# Altium footprint library acopians-monitoring-hw-library-pcb.PcbLib: 20 footprints (part 1 of 2)
Each footprint in its own frame and in the unit in brackets; x right, y up, seen from the top. Pads: shape width x height; smd on the part's side, far side on the other; paste and mask are expansions set on the pad; w line width, h text height; cw(c..) or ccw(c..) is an arc to the next point about the centre after c.
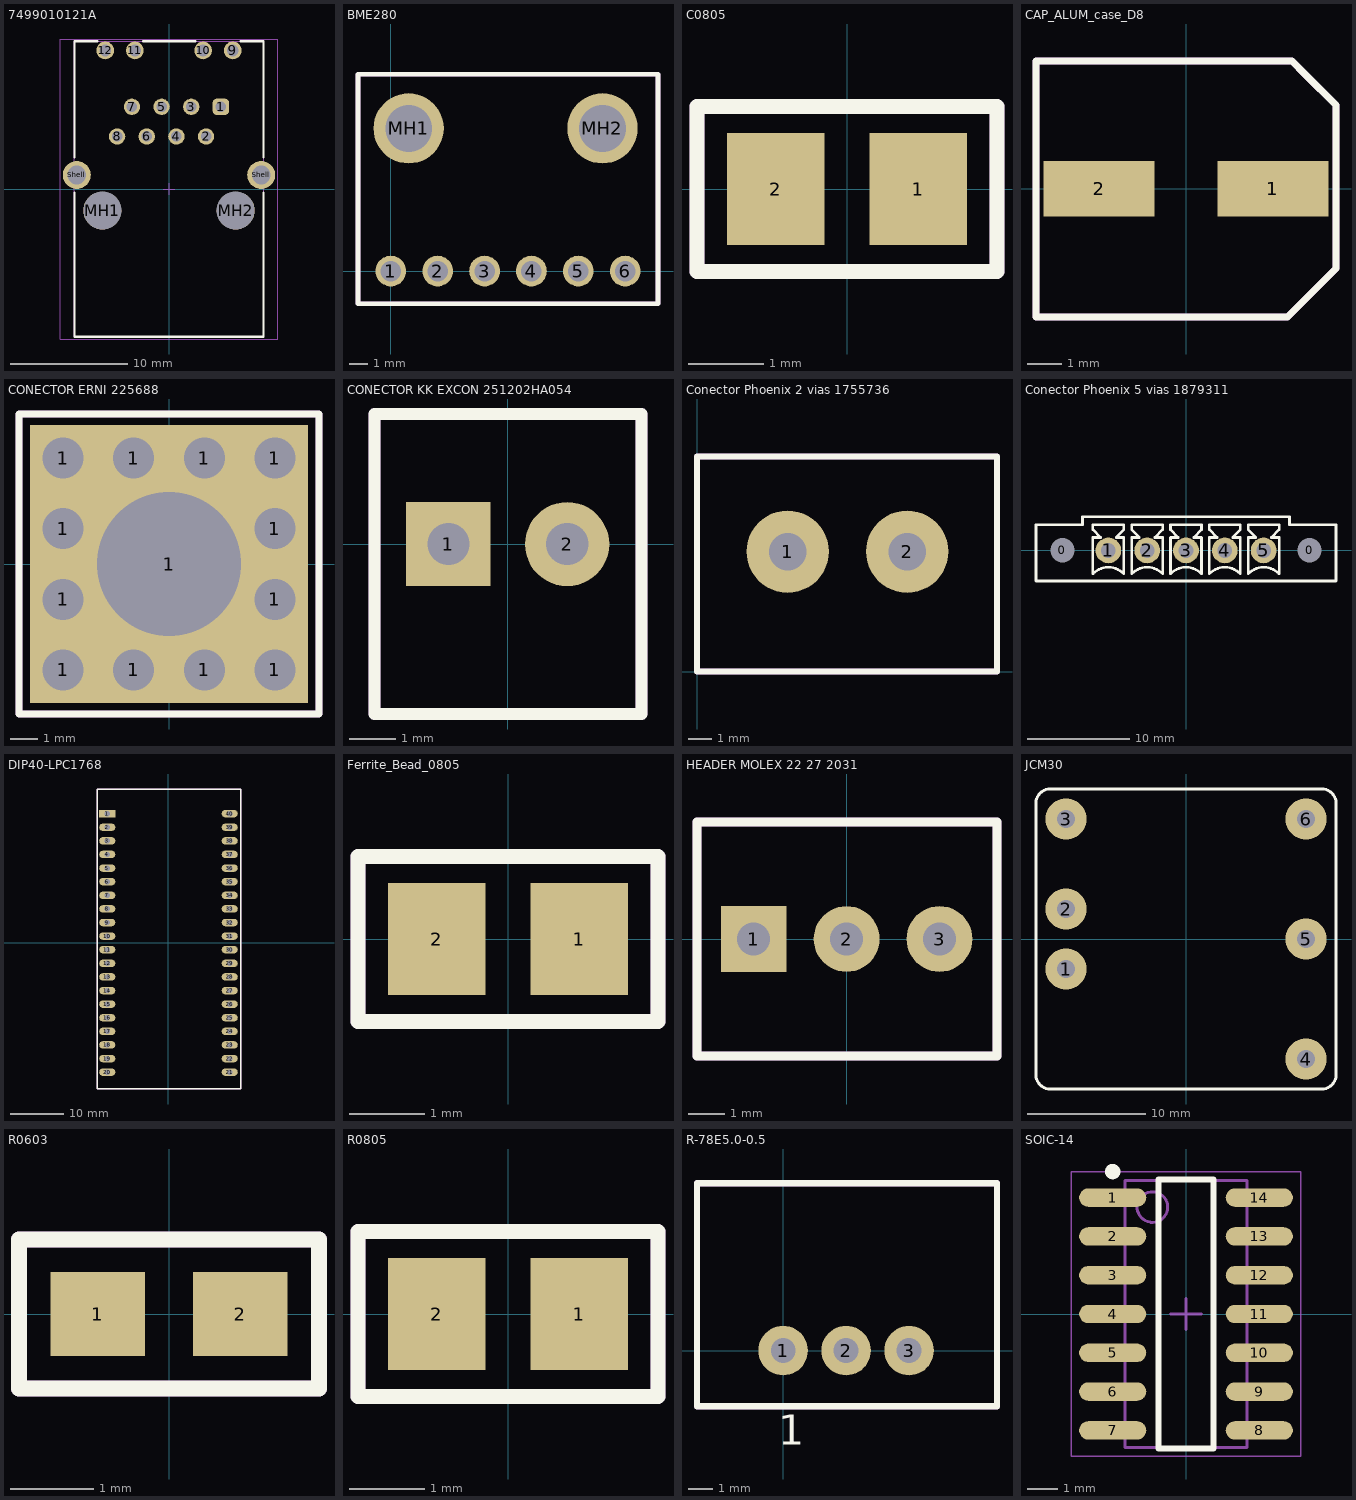
[diagram p0: the footprints below, top view; thin cyan lines are the x and y axes]

## 7499010121A [mm]
height 13.5
pads (16):
  rrect50% 1.4x1.4 hole 0.9: 1(4.445,7.04)
  round 1.4 hole 0.9: 2(3.175,4.5) 3(1.905,7.04) 4(0.635,4.5) 5(-0.635,7.04) 6(-1.905,4.5) 7(-3.175,7.04) 8(-4.445,4.5)
  round 1.52 hole 1.02: 9(5.465,11.87) 10(2.925,11.87) 11(-2.925,11.87) 12(-5.465,11.87)
  round 3.25 hole 3.25 unplated: MH1(-5.715,-1.85) MH2(5.715,-1.85)
  round 2.4 hole 1.6: Shell(-7.9,1.2) Shell(7.9,1.2)
Top Overlay:
  lines w0.2: -8.1,-0.3 -8.1,-12.65 8.1,-12.65 8.1,-0.3 ; -8.1,2.7 -8.1,12.65 -6.15,12.65 ; -2.2,12.65 2.24,12.65 ; 6.15,12.65 8.1,12.65 8.1,2.7
Top Courtyard:
  lines w0.05: -9.3,-12.85 -9.3,12.85 9.3,12.85 9.3,-12.85 -9.3,-12.85
Top Component Outline:
  lines w0.1: -8.1,-12.65 8.1,-12.65 8.1,12.65 -8.1,12.65 -8.1,-12.65
Mechanical 13:
  text ".Designator" at -7.546,-6.138 h1.52
Top Component Center:
  lines w0.05: -0.5,0 0.5,0 ; 0,-0.5 0,0.5
3D body "7499010121A.stp": height 13.61, standoff -3.79, extent -8.2,-12.65 8.2,12.65

## BME280 [mm]
pads (8):
  round 1.665 hole 1.11: 1(0,0) 2(2.54,0) 3(5.08,0) 4(7.62,0) 5(10.16,0) 6(12.7,0)
  round 3.81 hole 2.54: MH1(0.97,7.73) MH2(11.47,7.73)
Top Overlay:
  lines w0.254: -1.778,-1.778 -1.778,10.668 14.478,10.668 14.478,-1.778 -1.778,-1.778
Mechanical 13:
  text ".Designator" at -1.296,3.272 h1.52
Mechanical 29:
  lines w0.254: -1.778,-1.778 14.478,-1.778 14.478,10.668 -1.778,10.668 -1.778,-1.778
3D body "Module BME280.stp": height 14.06, standoff -3.18, extent -1.395,-1.27 14.095,10.23

## C0805 [mm]
pads (2):
  rect 1.3x1.5 smd: 1(0.95,0) 2(-0.95,0)
Top Overlay:
  lines w0.203: -2,-1.1 -2,1.1 2,1.1 2,-1.1 -2,-1.1
Mechanical 13:
  text ".Designator" at -7.874,-3.048 h1.52
Mechanical 29:
  lines w0.203: -2,-1.1 2,-1.1 2,1.1 -2,1.1 -2,-1.1
3D body "0805 SMD Capacitor.STP": height 0.8, standoff 0.02, extent -1,-0.625 1,0.625

## CAP_ALUM_case_D8 [mm]
pads (2):
  rect 3.2x1.6 smd: 1(2.5,0) 2(-2.5,0)
Top Overlay:
  lines w0.2: -4.318,-3.683 -4.318,3.68 3.051,3.68 3.429,3.302 4.318,2.413 4.318,-2.286 3.556,-3.048 2.921,-3.683 -4.318,-3.683
Mechanical 13:
  text ".Designator" at -7.62,-5.842 h1.52
Mechanical 29:
  lines w0.2: -4.318,-3.683 -4.318,3.68 3.051,3.68 3.429,3.302 4.318,2.413 4.318,-2.286 3.556,-3.048 2.921,-3.683 -4.318,-3.683
3D body "Capacitor 6.3 SIZE CODE D8.stp": height 7.72, standoff 0.02, extent -3.65,-3.3 3.65,3.3

## CONECTOR ERNI 225688 [mm]
pads (13):
  round 2 hole 1.475: 1(-3.81,-3.81) 1(-3.81,-1.27) 1(-3.81,1.27) 1(-3.81,3.81) 1(-1.27,-3.81) 1(-1.27,3.81) 1(1.27,-3.81) 1(1.27,3.81) 1(3.81,-3.81) 1(3.81,-1.27) 1(3.81,1.27) 1(3.81,3.81)
  rect 10x10 hole 5.2 unplated: 1(0,0)
Top Overlay:
  lines w0.254: -5.4,-5.4 5.4,-5.4 5.4,5.4 -5.4,5.4 -5.4,-5.4
Mechanical 13:
  lines w0.254: -5.4,-5.4 -5.4,5.4 5.4,5.4 5.4,-5.4 -5.4,-5.4
  text ".Designator" at -7.746,-7.738 h1.52
Mechanical 29:
  lines w0.254: -5.4,-5.4 -5.4,5.4 5.4,5.4 5.4,-5.4 -5.4,-5.4
3D body "225688.stp": height 6.02, standoff -3.48, extent -4.5,-4.5 4.5,4.5

## CONECTOR KK EXCON 251202HA054 [mm]
pads (2):
  rect 1.8x1.8 hole 0.9: 1(-1.27,0)
  round 1.8 hole 0.9: 2(1.27,0)
Top Overlay:
  lines w0.254: -2.85,-3.63 -2.85,2.78 2.86,2.78 2.86,-3.63 -2.85,-3.63
Mechanical 13:
  text ".Designator" at -7.666,-2.738 h1.52
Mechanical 29:
  lines w0.254: -2.85,-3.63 2.86,-3.63 2.86,2.78 -2.85,2.78 -2.85,-3.63
3D body "EXCON-251202HA054.stp": height 11.72, standoff -3.54, extent -2.54,-3.32 2.54,2.48

## Conector Phoenix 2 vias 1755736 [mm]
pads (2):
  round 3.5 hole 1.6: 1(3.85,5.1) 2(8.93,5.1)
Top Overlay:
  lines w0.254: 0,0 0,9.144 12.75,9.144 12.75,0 0,0
Mechanical 13:
  text ".Designator" at -1.394,1.513 h1.52
Mechanical 29:
  lines w0.254: 0,0 12.75,0 12.75,9.144 0,9.144 ; 0,0.001 0,9.143
3D body "Conector Phoenix 1755736.stp": height 12.01, standoff -3.89, extent 0.31,0.3 12.47,8.9

## Conector Phoenix 5 vias 1879311 [mm]
pads (7):
  round 1.524 hole 2.4: 0(-12.12,0) 0(12.12,0)
  round 2.524 hole 1.45: 1(-7.62,0) 2(-3.81,0) 3(0,0) 4(3.81,0) 5(7.62,0)
Top Overlay:
  lines w0.254: -14.72,-3 -14.72,2.54 -10.16,2.54 -10.16,3.302 -3.556,3.302 10.16,3.302 10.16,2.54 14.72,2.54 14.72,-3 -14.72,-3 ; -9.144,-2.286 cw(c-7.62,-3.81) -6.096,-2.286 -6.096,1.27 -6.858,1.27 -6.096,2.032 -6.096,2.54 -9.144,2.54 -9.144,2.032 -8.382,1.27 -9.144,1.27 -9.144,-2.286 ; -5.334,-2.286 cw(c-3.81,-3.81) -2.286,-2.286 -2.286,1.27 -3.048,1.27 -2.286,2.032 -2.286,2.54 -5.334,2.54 -5.334,2.032 -4.572,1.27 -5.334,1.27 -5.334,-2.286 ; -1.524,-2.286 cw(c0,-3.81) 1.524,-2.286 1.524,1.27 0.762,1.27 1.524,2.032 1.524,2.54 -1.524,2.54 -1.524,2.032 -0.762,1.27 -1.524,1.27 -1.524,-2.286 ; 2.286,-2.286 cw(c3.81,-3.81) 5.334,-2.286 5.334,1.27 4.572,1.27 5.334,2.032 5.334,2.54 2.286,2.54 2.286,2.032 3.048,1.27 2.286,1.27 2.286,-2.286 ; 6.096,-2.286 cw(c7.62,-3.81) 9.144,-2.286 9.144,1.27 8.382,1.27 9.144,2.032 9.144,2.54 6.096,2.54 6.096,2.032 6.858,1.27 6.096,1.27 6.096,-2.286
Mechanical 13:
  text ".Designator" at -7.656,-4.978 h1.52
3D body "Conector Phoenix 1879311.stp": height 9.22, standoff -3.48, extent -14.72,-3 14.72,4.25

## DIP40-LPC1768 [mm]
pads (40):
  rect 3x1.4 hole 1: 1(-11.43,24.13)
  oval 3x1.4 hole 1: 2(-11.43,21.59) 3(-11.43,19.05) 4(-11.43,16.51) 5(-11.43,13.97) 6(-11.43,11.43) 7(-11.43,8.89) 8(-11.43,6.35) 9(-11.43,3.81) 10(-11.43,1.27) 11(-11.43,-1.27) 12(-11.43,-3.81) 13(-11.43,-6.35) 14(-11.43,-8.89) 15(-11.43,-11.43) 16(-11.43,-13.97) 17(-11.43,-16.51) 18(-11.43,-19.05) 19(-11.43,-21.59) 20(-11.43,-24.13) 21(11.43,-24.13) 22(11.43,-21.59) 23(11.43,-19.05) 24(11.43,-16.51) 25(11.43,-13.97) 26(11.43,-11.43) 27(11.43,-8.89) 28(11.43,-6.35) 29(11.43,-3.81) 30(11.43,-1.27) 31(11.43,1.27) 32(11.43,3.81) 33(11.43,6.35) 34(11.43,8.89) 35(11.43,11.43) 36(11.43,13.97) 37(11.43,16.51) 38(11.43,19.05) 39(11.43,21.59) 40(11.43,24.13)
Top Overlay:
  lines w0.254: -13.28,-27.27 13.47,-27.27 13.47,28.73 -13.28,28.73 -13.28,-27.27
Mechanical 13:
  text ".Designator" at -7.746,2.262 h1.52
Mechanical 29:
  lines w0.254: -13.28,-27.27 13.47,-27.27 13.47,28.73 -13.28,28.73 -13.28,-27.27
3D body "MBED-LPC1768.stp": height 16.86, standoff -3.18, extent -12.987,-27.007 13.013,28.775

## Ferrite_Bead_0805 [mm]
pads (2):
  rect 1.3x1.5 smd: 1(0.95,0) 2(-0.95,0)
Top Overlay:
  lines w0.203: -2,-1.1 2,-1.1 2,1.1 -2,1.1 -2,-1.1
Mechanical 13:
  text ".Designator" at -7.112,-3.048 h1.52
Mechanical 29:
  lines w0.203: -2,-1.1 2,-1.1 2,1.1 -2,1.1 -2,-1.1
3D body "0805 SMD Inductor.STP": height 1.32, standoff 0.02, extent -1,-0.6 1,0.6

## HEADER MOLEX 22 27 2031 [mm]
pads (3):
  rect 1.8x1.8 hole 0.9: 1(-2.54,0)
  round 1.8 hole 0.9: 2(0,0) 3(2.54,0)
Top Overlay:
  lines w0.254: -4.09,-3.2 4.11,-3.2 4.11,3.2 -4.09,3.2 -4.09,-3.2
Mechanical 13:
  text ".Designator" at -7.636,-2.328 h1.52
Mechanical 29:
  lines w0.254: -4.09,-3.2 -4.09,3.2 4.11,3.2 4.11,-3.2 -4.09,-3.2
3D body "Conector Molex 022272031.stp": height 11.72, standoff -3.54, extent -3.81,-2.92 3.81,2.88

## JCM30 [mm]
pads (6):
  round 3.5 hole 1.5: 1(-10.16,-2.54) 2(-10.16,2.54) 3(-10.16,10.16) 4(10.16,-10.16) 5(10.16,0) 6(10.16,10.16)
Top Overlay:
  lines w0.254: -12.7,-11.51 ccw(c-11.51,-11.51) -11.51,-12.7 11.51,-12.7 ccw(c11.51,-11.51) 12.7,-11.51 12.7,11.51 ccw(c11.51,11.51) 11.51,12.7 -11.51,12.7 ccw(c-11.51,11.51) -12.7,11.51 -12.7,-11.51
Mechanical 13:
  text ".Designator" at -6.946,3.862 h1.52
3D body "JCM3012D15.stp": height 10.68, standoff -6.08, extent -12.7,-12.7 12.7,12.7

## R0603 [mil]
pads (2):
  rect 45x40 smd: 1(-33.97,0) 2(33.97,0)
Top Overlay:
  lines w7.5: -71.37,-35.5 0,-35.5 71.36,-35.5 71.36,35.5 0,35.5 -71.37,35.5 -71.37,-35.5
Mechanical 13:
  text ".Designator" at -300,-110.01 h60
Mechanical 29:
  lines w7.5: -71.37,-35.5 -71.37,35.5 0,35.5 71.36,35.5 71.36,-35.5 0,-35.5 -71.37,-35.5
3D body "0603 SMD Resistor.STP": height 20.39, standoff 0.71, extent -31.49,-17.71 31.5,17.72

## R0805 [mm]
pads (2):
  rect 1.3x1.5 smd: 1(0.95,0) 2(-0.95,0)
Top Overlay:
  lines w0.203: -2,-1.1 2,-1.1 2,1.1 -2,1.1 -2,-1.1
Mechanical 13:
  text ".Designator" at -6.858,-3.048 h1.52
Mechanical 29:
  lines w0.203: -2,-1.1 2,-1.1 2,1.1 -2,1.1 -2,-1.1
3D body "0805 SMD Resistor.STP": height 0.52, standoff 0.02, extent -1,-0.625 1,0.625

## R-78E5.0-0.5 [mm]
pads (3):
  round 2 hole 1: 1(0,0) 2(2.54,0) 3(5.08,0)
Top Overlay:
  lines w0.254: -3.475,-2.25 -3.475,6.75 8.625,6.75 8.625,-2.25 -3.475,-2.25
  text "1" at -0.2,-3.8 h1.2
Mechanical 13:
  text ".Designator" at -0.246,2.862 h1.52
Mechanical 29:
  lines w0.254: -3.475,-2.25 8.625,-2.25 8.625,6.75 -3.475,6.75 -3.475,-2.25
  text "1" at -0.2,-3.8 h1.2
3D body "R-78E5.0-0.5.stp": height 10.41, standoff -4.09, extent -3.21,-2 8.39,6.5

## SOIC-14 [mm]
pads (14):
  oval 2.2x0.6 smd: 1(-2.4,3.81) 2(-2.4,2.54) 3(-2.4,1.27) 4(-2.4,0) 5(-2.4,-1.27) 6(-2.4,-2.54) 7(-2.4,-3.81) 8(2.4,-3.81) 9(2.4,-2.54) 10(2.4,-1.27) 11(2.4,0) 12(2.4,1.27) 13(2.4,2.54) 14(2.4,3.81)
Top Overlay:
  circle w0.25: c-2.4,4.66 r0.125
  lines w0.2: -0.9,-4.4 0.9,-4.4 0.9,4.4 -0.9,4.4 -0.9,-4.4
Mechanical 13:
  text ".Designator" at -0.146,-0.138 h1.52
Mechanical 15:
  lines w0.05: -3.75,-4.65 3.75,-4.65 3.75,4.65 -3.75,4.65 -3.75,-4.65
  lines w0.1: -0.5,0 0.5,0 ; 0,-0.5 0,0.5
Mechanical 29:
  circle w0.1: c-1.1,3.5 r0.5
  lines w0.1: -2,-4.375 2,-4.375 2,4.375 -2,4.375 -2,-4.375
3D body "SOIC-14.stp": height 1.75, standoff 0, extent -3,-4.375 3,4.375